# EAGLE library part WURTH_7498011122_RJ45 (library futz)
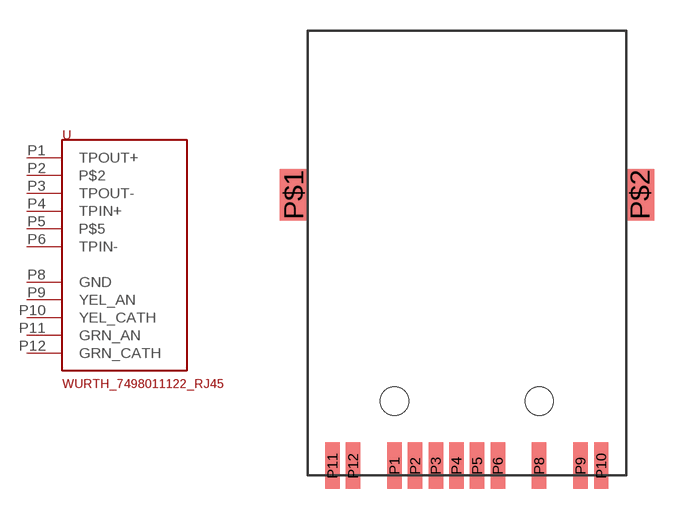
[diagram p3: symbol with the pads of WURTH_7498011122_RJ45; footprint WURTH_7498011122_RJ45]

Designator prefix -

## WURTH_7498011122_RJ45  [WURTH_7498011122_RJ45]
P1  TPOUT+
P2  P$2
P3  TPOUT-
P4  TPIN+
P5  P$5
P6  TPIN-
P8  GND  pwr
P9  YEL_AN  pwr
P10  YEL_CATH  pwr
P11  GRN_AN  pwr
P12  GRN_CATH  pwr

## Footprint WURTH_7498011122_RJ45 (pad centres in mm)
smd 0.711 x 2.286: P1 -3.556,-3.175; P2 -2.54,-3.175; P3 -1.524,-3.175; P4 -0.508,-3.175; P5 0.508,-3.175; P6 1.524,-3.175; P8 3.556,-3.175; P9 5.588,-3.175; P10 6.604,-3.175; P11 -6.604,-3.175; P12 -5.588,-3.175
smd 1.397 x 2.54: P$1 -8.509,10.16; P$2 8.509,10.16
hole 1.397 at 3.556,0
hole 1.397 at -3.556,0